# EAGLE library part TINY_RTC (library MTS-OTR_Custom)
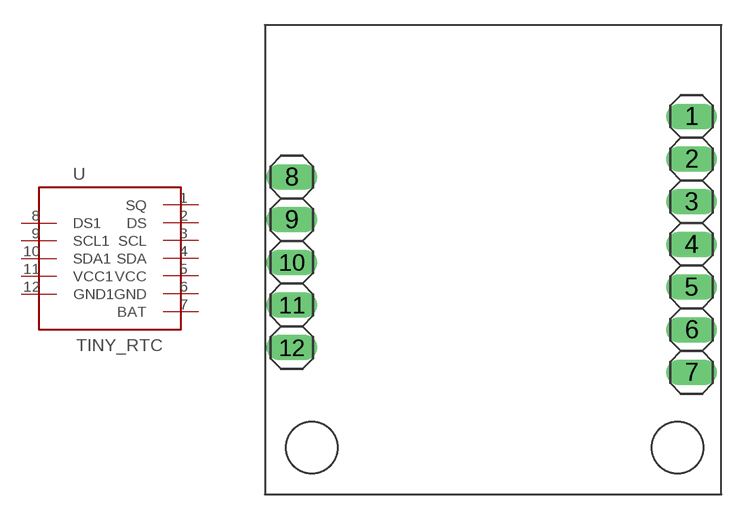
[diagram p18: symbol with the pads of TINY_RTC; footprint TINY_RTC]

Designator prefix -

## TINY_RTC  [TINY_RTC]
1  SQ
2  DS
3  SCL
4  SDA
5  VCC
6  GND
7  BAT
8  DS1
9  SCL1
10  SDA1
11  VCC1
12  GND1

## Footprint TINY_RTC (pad centres in mm)
drill 1.016 long: 1 25.4,22.504; 2 25.4,19.964; 3 25.4,17.424; 4 25.4,14.884; 5 25.4,12.344; 6 25.4,9.804; 7 25.4,7.264; 8 1.6,18.898; 9 1.6,16.358; 10 1.6,13.818; 11 1.6,11.278; 12 1.6,8.738